# Altium schematic symbol library pporyzala-TI_Lighting.SchLib: 745 symbols (part 48 of 48)
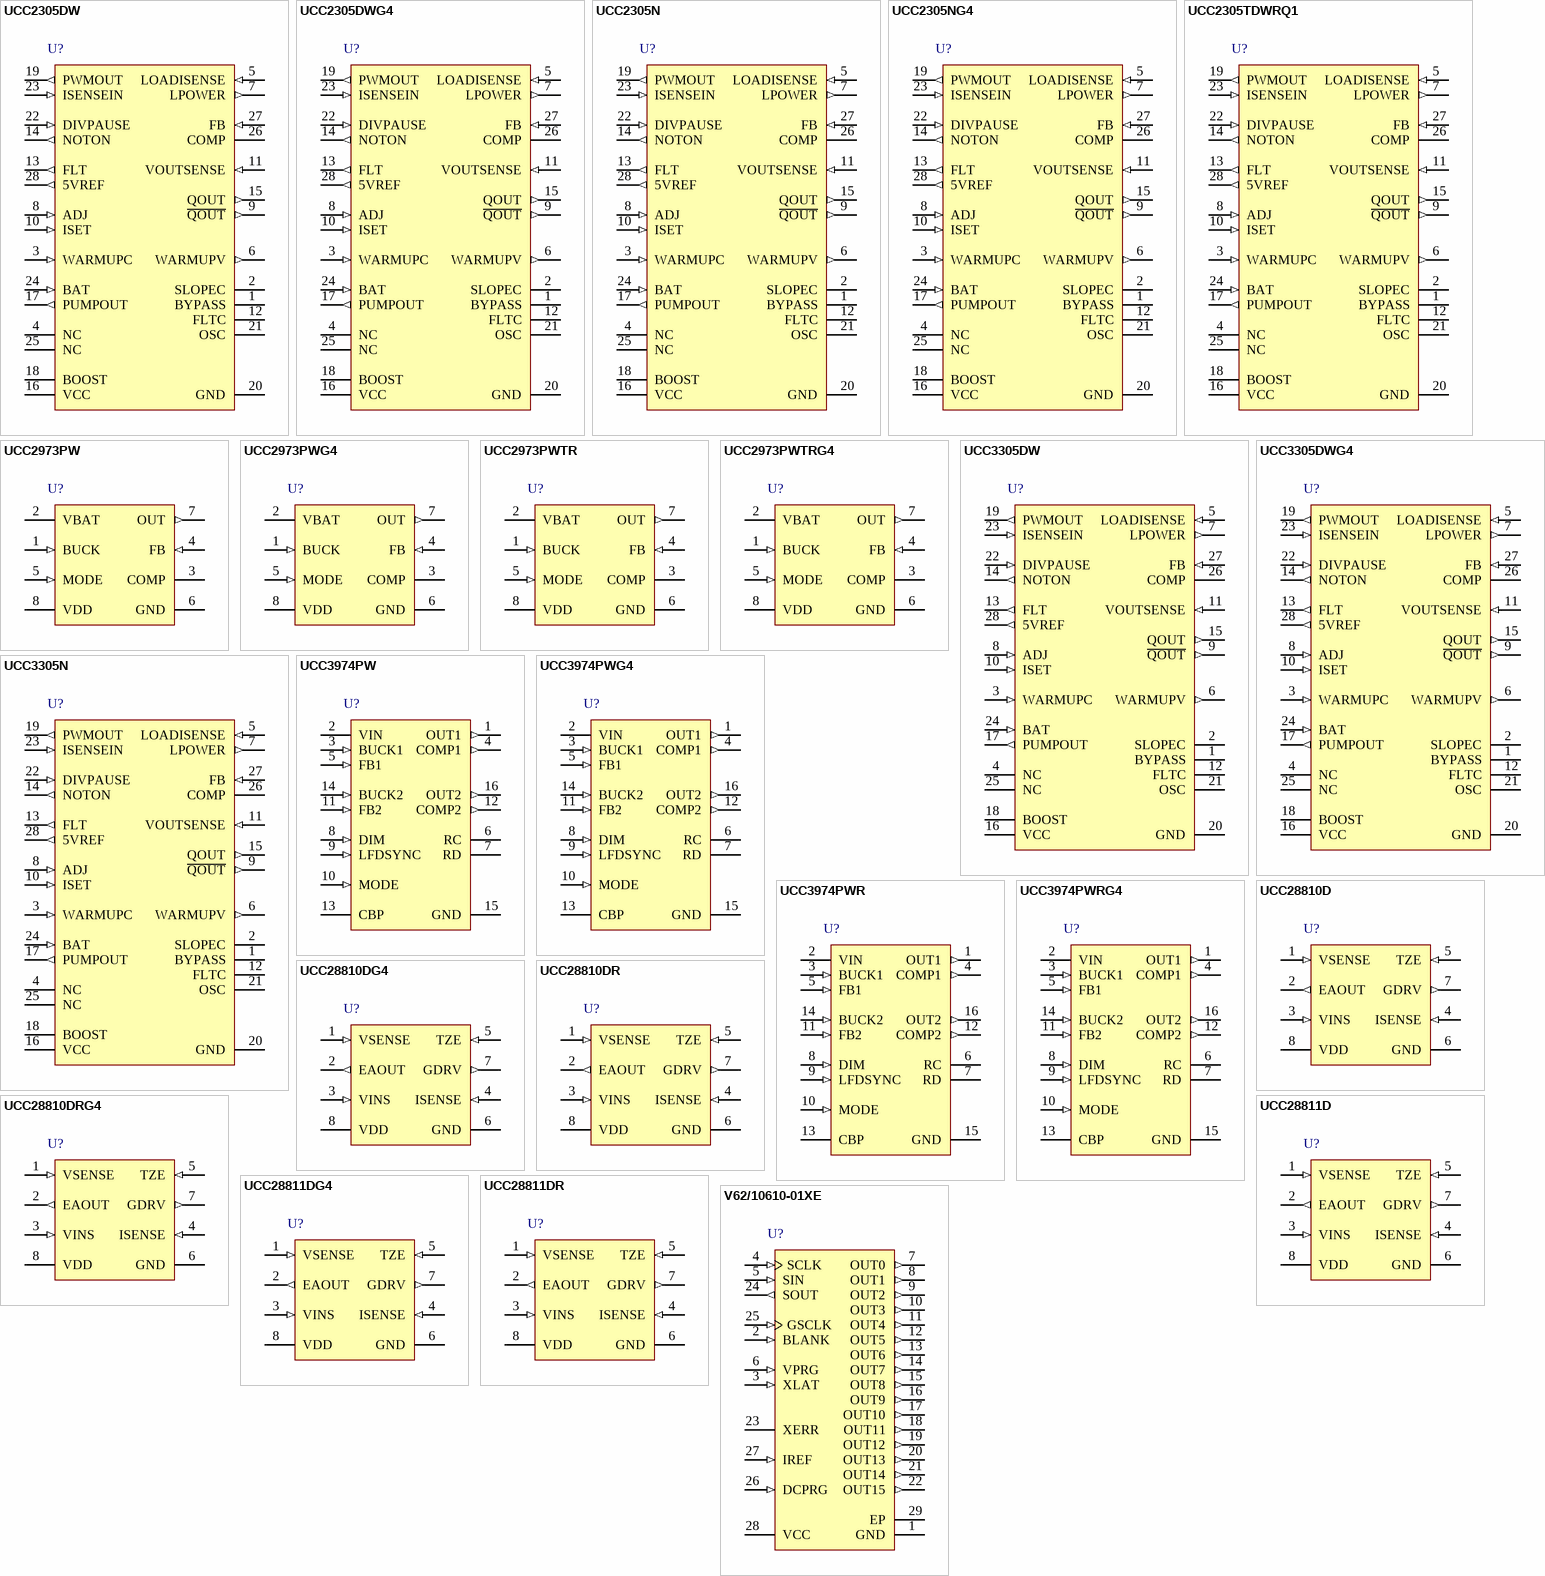
[diagram p78: symbols UCC2305DW to V62/10610-01XE]

## UCC3974PW
designator U?
Dual Cold Cathode Fluorescent Lamp Controller, 4.5 to 25 V, 0 to 70 degC, 16-pin SOP (PW16), Green (RoHS & no Sb/Br); Manufacturer: Texas Instruments; PartNumber: UCC3974PW; Control Topology: Push-Pull; Frequency(Max)(kHz): 220; Open Lamp Detect: TRUE; Rating: Catalog; SubFamily: CCFL Backlight Converter; Vin(Max)(V): 25; Vin(Min)(V): 4.5; DatasheetVersion: SLUS485A; PackageVersion: 4040064-4/G; PackageReference: PW16; PackageDescription: 16-Pin Plastic Small Outline, Body 4.40 x 5.00 mm, Pitch 0.65 mm; Supplier 1: Digi-Key; Supplier Part Number 1: 296-12405-5-ND; Supplier 2: Newark; Supplier Part Number 2: 77C2674; Supplier 3: Mouser; Supplier Part Number 3: 595-UCC3974PW; Eco-Plan: Green (RoHS & no Sb/Br); Mounting Technology: Surface Mount; Code_JEDEC: MO-153; ComponentLink1Description: Manufacturer URL; ComponentLink1URL: http://www.ti.com/; ComponentLink2Description: Datasheet; ComponentLink2URL: http://www.ti.com/general/docs/lit/getliterature.tsp?genericPartNumber=UCC3974&fileType=pdf; ComponentLink3Description: Package Specification; ComponentLink3URL: http://www.ti.com/lit/ml/mpds361/mpds361.pdf
footprint TI-PW16_N (SOP, 16-Leads, Body 5x4.4mm, Pitch 0.65mm, IPC Medium Density)
footprint TI-PW16_L (SOP, 16-Leads, Body 5x4.4mm, Pitch 0.65mm, IPC High Density)
footprint TI-PW16_M (SOP, 16-Leads, Body 5x4.4mm, Pitch 0.65mm, IPC Low Density)
pins: 1 OUT1 (out) "FET drive output for the channel. The pin is driven between GND and internal voltage (typically 12 V).", 2 VIN (power) "Power supply input. 4.5 V to 25 V.", 3 BUCK1 (in) "Voltage sense for the resonant tank", 4 COMP1 (out) "Output of the error amplifiers for the channel.", 5 FB1 (in) "Inverting input of the error amplifier.", 6 RC "Connection for the low-frequency dimming (LFD) charge resistor. The other terminal of the resistor is connected to the LFD capacitor, CLFD.", 7 RD "Connection for low-frequency dimming (LFD) discharge resistor, RD. The other terminal of the resistor is connected to the LFD capacitor, CLFD. LFD frequency us user programmable by varying RC, RD and CFLD.", 8 DIM (in) "Reference signal applied to the LFD PWM that determines the LFD duty cycle.", 9 LFDSYNC (in) "2.5-V logic-compatible pin used to synchronize the LFD oscillator.", 10 MODE (in) "Start-up timing control.", 11 FB2 (in) "Inverting input of the error amplifier.", 12 COMP2 (out) "Output of the error amplifiers for the channel.", 13 CBP (power) "Internally generated low-voltage supply. Bypass to GND with 0.1-μF bypass coordinator.", 14 BUCK2 (in) "Voltage sense for the resonant tank", 15 GND (power) "Power supply return.", 16 OUT2 (out) "FET drive output for the channel. The pin is driven between GND and internal voltage (typically 12 V)."

## UCC3974PWG4
designator U?
Dual Cold Cathode Fluorescent Lamp Controller, 4.5 to 25 V, 0 to 70 degC, 16-pin SOP (PW16), Green (RoHS & no Sb/Br); Manufacturer: Texas Instruments; PartNumber: UCC3974PWG4; Control Topology: Push-Pull; Frequency(Max)(kHz): 220; Open Lamp Detect: TRUE; Rating: Catalog; SubFamily: CCFL Backlight Converter; Vin(Max)(V): 25; Vin(Min)(V): 4.5; DatasheetVersion: SLUS485A; PackageVersion: 4040064-4/G; PackageReference: PW16; PackageDescription: 16-Pin Plastic Small Outline, Body 4.40 x 5.00 mm, Pitch 0.65 mm; Supplier 1: Digi-Key; Supplier Part Number 1: UCC3974PWG4-ND; Supplier 2: Newark; Supplier Part Number 2: 80K3520; Supplier 3: Mouser; Supplier Part Number 3: 595-UCC3974PWG4; Eco-Plan: Green (RoHS & no Sb/Br); Mounting Technology: Surface Mount; Code_JEDEC: MO-153; ComponentLink1Description: Manufacturer URL; ComponentLink1URL: http://www.ti.com/; ComponentLink2Description: Datasheet; ComponentLink2URL: http://www.ti.com/general/docs/lit/getliterature.tsp?genericPartNumber=UCC3974&fileType=pdf; ComponentLink3Description: Package Specification; ComponentLink3URL: http://www.ti.com/lit/ml/mpds361/mpds361.pdf
footprint TI-PW16_N (SOP, 16-Leads, Body 5x4.4mm, Pitch 0.65mm, IPC Medium Density)
footprint TI-PW16_L (SOP, 16-Leads, Body 5x4.4mm, Pitch 0.65mm, IPC High Density)
footprint TI-PW16_M (SOP, 16-Leads, Body 5x4.4mm, Pitch 0.65mm, IPC Low Density)
pins: 1 OUT1 (out) "FET drive output for the channel. The pin is driven between GND and internal voltage (typically 12 V).", 2 VIN (power) "Power supply input. 4.5 V to 25 V.", 3 BUCK1 (in) "Voltage sense for the resonant tank", 4 COMP1 (out) "Output of the error amplifiers for the channel.", 5 FB1 (in) "Inverting input of the error amplifier.", 6 RC "Connection for the low-frequency dimming (LFD) charge resistor. The other terminal of the resistor is connected to the LFD capacitor, CLFD.", 7 RD "Connection for low-frequency dimming (LFD) discharge resistor, RD. The other terminal of the resistor is connected to the LFD capacitor, CLFD. LFD frequency us user programmable by varying RC, RD and CFLD.", 8 DIM (in) "Reference signal applied to the LFD PWM that determines the LFD duty cycle.", 9 LFDSYNC (in) "2.5-V logic-compatible pin used to synchronize the LFD oscillator.", 10 MODE (in) "Start-up timing control.", 11 FB2 (in) "Inverting input of the error amplifier.", 12 COMP2 (out) "Output of the error amplifiers for the channel.", 13 CBP (power) "Internally generated low-voltage supply. Bypass to GND with 0.1-μF bypass coordinator.", 14 BUCK2 (in) "Voltage sense for the resonant tank", 15 GND (power) "Power supply return.", 16 OUT2 (out) "FET drive output for the channel. The pin is driven between GND and internal voltage (typically 12 V)."

## UCC3974PWR
designator U?
Dual Cold Cathode Fluorescent Lamp Controller, 4.5 to 25 V, 0 to 70 degC, 16-pin SOP (PW16), Green (RoHS & no Sb/Br); Manufacturer: Texas Instruments; PartNumber: UCC3974PWR; Control Topology: Push-Pull; Frequency(Max)(kHz): 220; Open Lamp Detect: TRUE; Rating: Catalog; SubFamily: CCFL Backlight Converter; Vin(Max)(V): 25; Vin(Min)(V): 4.5; DatasheetVersion: SLUS485A; PackageVersion: 4040064-4/G; PackageReference: PW16; PackageDescription: 16-Pin Plastic Small Outline, Body 4.40 x 5.00 mm, Pitch 0.65 mm; Supplier 1: Digi-Key; Supplier Part Number 1: UCC3974PWR-ND; Supplier 2: Newark; Supplier Part Number 2: 77C2675; Supplier 3: Mouser; Supplier Part Number 3: 595-UCC3974PWR; Eco-Plan: Green (RoHS & no Sb/Br); Mounting Technology: Surface Mount; Code_JEDEC: MO-153; ComponentLink1Description: Manufacturer URL; ComponentLink1URL: http://www.ti.com/; ComponentLink2Description: Datasheet; ComponentLink2URL: http://www.ti.com/general/docs/lit/getliterature.tsp?genericPartNumber=UCC3974&fileType=pdf; ComponentLink3Description: Package Specification; ComponentLink3URL: http://www.ti.com/lit/ml/mpds361/mpds361.pdf
footprint TI-PW16_N (SOP, 16-Leads, Body 5x4.4mm, Pitch 0.65mm, IPC Medium Density)
footprint TI-PW16_L (SOP, 16-Leads, Body 5x4.4mm, Pitch 0.65mm, IPC High Density)
footprint TI-PW16_M (SOP, 16-Leads, Body 5x4.4mm, Pitch 0.65mm, IPC Low Density)
pins: 1 OUT1 (out) "FET drive output for the channel. The pin is driven between GND and internal voltage (typically 12 V).", 2 VIN (power) "Power supply input. 4.5 V to 25 V.", 3 BUCK1 (in) "Voltage sense for the resonant tank", 4 COMP1 (out) "Output of the error amplifiers for the channel.", 5 FB1 (in) "Inverting input of the error amplifier.", 6 RC "Connection for the low-frequency dimming (LFD) charge resistor. The other terminal of the resistor is connected to the LFD capacitor, CLFD.", 7 RD "Connection for low-frequency dimming (LFD) discharge resistor, RD. The other terminal of the resistor is connected to the LFD capacitor, CLFD. LFD frequency us user programmable by varying RC, RD and CFLD.", 8 DIM (in) "Reference signal applied to the LFD PWM that determines the LFD duty cycle.", 9 LFDSYNC (in) "2.5-V logic-compatible pin used to synchronize the LFD oscillator.", 10 MODE (in) "Start-up timing control.", 11 FB2 (in) "Inverting input of the error amplifier.", 12 COMP2 (out) "Output of the error amplifiers for the channel.", 13 CBP (power) "Internally generated low-voltage supply. Bypass to GND with 0.1-μF bypass coordinator.", 14 BUCK2 (in) "Voltage sense for the resonant tank", 15 GND (power) "Power supply return.", 16 OUT2 (out) "FET drive output for the channel. The pin is driven between GND and internal voltage (typically 12 V)."

## UCC3974PWRG4
designator U?
Dual Cold Cathode Fluorescent Lamp Controller, 4.5 to 25 V, 0 to 70 degC, 16-pin SOP (PW16), Green (RoHS & no Sb/Br); Manufacturer: Texas Instruments; PartNumber: UCC3974PWRG4; Control Topology: Push-Pull; Frequency(Max)(kHz): 220; Open Lamp Detect: TRUE; Rating: Catalog; SubFamily: CCFL Backlight Converter; Vin(Max)(V): 25; Vin(Min)(V): 4.5; DatasheetVersion: SLUS485A; PackageVersion: 4040064-4/G; PackageReference: PW16; PackageDescription: 16-Pin Plastic Small Outline, Body 4.40 x 5.00 mm, Pitch 0.65 mm; Supplier 1: Digi-Key; Supplier Part Number 1: UCC3974PWRG4-ND; Supplier 2: Newark; Supplier Part Number 2: 54K2215; Supplier 3: Mouser; Supplier Part Number 3: 595-UCC3974PWRG4; Eco-Plan: Green (RoHS & no Sb/Br); Mounting Technology: Surface Mount; Code_JEDEC: MO-153; ComponentLink1Description: Manufacturer URL; ComponentLink1URL: http://www.ti.com/; ComponentLink2Description: Datasheet; ComponentLink2URL: http://www.ti.com/general/docs/lit/getliterature.tsp?genericPartNumber=UCC3974&fileType=pdf; ComponentLink3Description: Package Specification; ComponentLink3URL: http://www.ti.com/lit/ml/mpds361/mpds361.pdf
footprint TI-PW16_N (SOP, 16-Leads, Body 5x4.4mm, Pitch 0.65mm, IPC Medium Density)
footprint TI-PW16_L (SOP, 16-Leads, Body 5x4.4mm, Pitch 0.65mm, IPC High Density)
footprint TI-PW16_M (SOP, 16-Leads, Body 5x4.4mm, Pitch 0.65mm, IPC Low Density)
pins: 1 OUT1 (out) "FET drive output for the channel. The pin is driven between GND and internal voltage (typically 12 V).", 2 VIN (power) "Power supply input. 4.5 V to 25 V.", 3 BUCK1 (in) "Voltage sense for the resonant tank", 4 COMP1 (out) "Output of the error amplifiers for the channel.", 5 FB1 (in) "Inverting input of the error amplifier.", 6 RC "Connection for the low-frequency dimming (LFD) charge resistor. The other terminal of the resistor is connected to the LFD capacitor, CLFD.", 7 RD "Connection for low-frequency dimming (LFD) discharge resistor, RD. The other terminal of the resistor is connected to the LFD capacitor, CLFD. LFD frequency us user programmable by varying RC, RD and CFLD.", 8 DIM (in) "Reference signal applied to the LFD PWM that determines the LFD duty cycle.", 9 LFDSYNC (in) "2.5-V logic-compatible pin used to synchronize the LFD oscillator.", 10 MODE (in) "Start-up timing control.", 11 FB2 (in) "Inverting input of the error amplifier.", 12 COMP2 (out) "Output of the error amplifiers for the channel.", 13 CBP (power) "Internally generated low-voltage supply. Bypass to GND with 0.1-μF bypass coordinator.", 14 BUCK2 (in) "Voltage sense for the resonant tank", 15 GND (power) "Power supply return.", 16 OUT2 (out) "FET drive output for the channel. The pin is driven between GND and internal voltage (typically 12 V)."

## UCC28810D
designator U?
LED Lighting Power Controller, -40 to 105 degC, 8-pin SOIC (D8), Green (RoHS & no Sb/Br); Manufacturer: Texas Instruments; PartNumber: UCC28810D; Rating: Catalog; SubFamily: LED Driver, Lighting and Display Solutions, White LED Driver; DatasheetVersion: SLUS865; PackageVersion: 4040047-3/M; PackageReference: D8; PackageDescription: 8-Pin Plastic Small Outline, Body 4.9 x 3.9 mm, Pitch 1.27 mm; Supplier 1: Digi-Key; Supplier Part Number 1: 296-27162-5-ND; Supplier 2: Farnell; Supplier Part Number 2: 1755591; Supplier 3: Newark; Supplier Part Number 3: 34P6595; Supplier 4: Mouser; Supplier Part Number 4: 595-UCC28810D; Eco-Plan: Green (RoHS & no Sb/Br); Mounting Technology: Surface Mount; Code_JEDEC: MS-012; ComponentLink1Description: Manufacturer URL; ComponentLink1URL: http://www.ti.com/; ComponentLink2Description: Datasheet; ComponentLink2URL: http://www.ti.com/general/docs/lit/getliterature.tsp?genericPartNumber=UCC28810&fileType=pdf; ComponentLink3Description: Package Specification; ComponentLink3URL: http://www.ti.com/litv/pdf/msoi002j
footprint TI-D8_N (SOIC, 8-Leads, Body 4.9x3.9mm, Pitch 1.27mm, IPC Medium Density)
footprint TI-D8_L (SOIC, 8-Leads, Body 4.9x3.9mm, Pitch 1.27mm, IPC High Density)
footprint TI-D8_M (SOIC, 8-Leads, Body 4.9x3.9mm, Pitch 1.27mm, IPC Low Density)
pins: 1 VSENSE (in) "This pin is the inverting input to the transconductance amplifier, with a nominal value of 2.5 V, and is also the input to the OVP comparator. Pulling this pin below the ENABLE threshold turns off the output switching, (See Datasheet)", 2 EAOUT (out) "Output of the transconductance error amplifier. The output current capability of this pin is 10 µA under normal conditions, but increases to 1 mA when the voltage on VSENSE rises above 2.5 V. The EAOUT voltage is one of the (See Datasheet)", 3 VINS (in) "This pin senses the instantaneous regulator input voltage through an external voltage divider. The VINS voltage acts as one of the inputs to the current reference generator. The recommended operating range is 0 V to 3.8 V at (See Datasheet)", 4 ISENSE (in) "This pin senses the instantaneous switch current in the external switch and uses this signal as the internal ramp for the current sense comparator. A small internal noise filter is provided. If additional filtering is (See Datasheet)", 5 TZE (in) "This pin is the input for the transformer zero energy detect comparator. A bias winding can be used to sense the transformer zero energy. The transition is detected when the inductor current falls to zero and the TZE input (See Datasheet)", 6 GND (power) "The device reference ground. All bypassing elements are connected to the GND pin with the shortest traces possible.", 7 GDRV (out) "The gate drive output driving the flyback, buck, or boost switch. This output is capable of delivering up to 750-mA peak currents during turn-on and turn-off. An external gate drive resistor may be needed to limit the peak (See Datasheet)", 8 VDD (power) "The supply voltage for the device. This pin must be bypassed with a high-frequency capacitor (not less than 0.1 µF) and tied directly to GND with the shortest traces possible. The UCC28810 has a wide UVLO hysteresis, (See Datasheet)"

## UCC28810DG4
designator U?
LED Lighting Power Controller, -40 to 105 degC, 8-pin SOIC (D8), Green (RoHS & no Sb/Br); Manufacturer: Texas Instruments; PartNumber: UCC28810DG4; Rating: Catalog; SubFamily: LED Driver, Lighting and Display Solutions, White LED Driver; DatasheetVersion: SLUS865; PackageVersion: 4040047-3/M; PackageReference: D8; PackageDescription: 8-Pin Plastic Small Outline, Body 4.9 x 3.9 mm, Pitch 1.27 mm; Supplier 1: Digi-Key; Supplier Part Number 1: UCC28810DG4-ND; Supplier 2: Newark; Supplier Part Number 2: 34P6596; Supplier 3: Mouser; Supplier Part Number 3: 595-UCC28810DG4; Eco-Plan: Green (RoHS & no Sb/Br); Mounting Technology: Surface Mount; Code_JEDEC: MS-012; ComponentLink1Description: Manufacturer URL; ComponentLink1URL: http://www.ti.com/; ComponentLink2Description: Datasheet; ComponentLink2URL: http://www.ti.com/general/docs/lit/getliterature.tsp?genericPartNumber=UCC28810&fileType=pdf; ComponentLink3Description: Package Specification; ComponentLink3URL: http://www.ti.com/litv/pdf/msoi002j
footprint TI-D8_N (SOIC, 8-Leads, Body 4.9x3.9mm, Pitch 1.27mm, IPC Medium Density)
footprint TI-D8_L (SOIC, 8-Leads, Body 4.9x3.9mm, Pitch 1.27mm, IPC High Density)
footprint TI-D8_M (SOIC, 8-Leads, Body 4.9x3.9mm, Pitch 1.27mm, IPC Low Density)
pins: 1 VSENSE (in) "This pin is the inverting input to the transconductance amplifier, with a nominal value of 2.5 V, and is also the input to the OVP comparator. Pulling this pin below the ENABLE threshold turns off the output switching, (See Datasheet)", 2 EAOUT (out) "Output of the transconductance error amplifier. The output current capability of this pin is 10 µA under normal conditions, but increases to 1 mA when the voltage on VSENSE rises above 2.5 V. The EAOUT voltage is one of the (See Datasheet)", 3 VINS (in) "This pin senses the instantaneous regulator input voltage through an external voltage divider. The VINS voltage acts as one of the inputs to the current reference generator. The recommended operating range is 0 V to 3.8 V at (See Datasheet)", 4 ISENSE (in) "This pin senses the instantaneous switch current in the external switch and uses this signal as the internal ramp for the current sense comparator. A small internal noise filter is provided. If additional filtering is (See Datasheet)", 5 TZE (in) "This pin is the input for the transformer zero energy detect comparator. A bias winding can be used to sense the transformer zero energy. The transition is detected when the inductor current falls to zero and the TZE input (See Datasheet)", 6 GND (power) "The device reference ground. All bypassing elements are connected to the GND pin with the shortest traces possible.", 7 GDRV (out) "The gate drive output driving the flyback, buck, or boost switch. This output is capable of delivering up to 750-mA peak currents during turn-on and turn-off. An external gate drive resistor may be needed to limit the peak (See Datasheet)", 8 VDD (power) "The supply voltage for the device. This pin must be bypassed with a high-frequency capacitor (not less than 0.1 µF) and tied directly to GND with the shortest traces possible. The UCC28810 has a wide UVLO hysteresis, (See Datasheet)"

## UCC28810DR
designator U?
LED Lighting Power Controller, -40 to 105 degC, 8-pin SOIC (D8), Green (RoHS & no Sb/Br); Manufacturer: Texas Instruments; PartNumber: UCC28810DR; Rating: Catalog; SubFamily: LED Driver, Lighting and Display Solutions, White LED Driver; DatasheetVersion: SLUS865; PackageVersion: 4040047-3/M; PackageReference: D8; PackageDescription: 8-Pin Plastic Small Outline, Body 4.9 x 3.9 mm, Pitch 1.27 mm; Supplier 1: Digi-Key; Supplier Part Number 1: 296-23905-2-ND; Supplier 2: Digi-Key; Supplier Part Number 2: 296-23905-1-ND; Supplier 3: Digi-Key; Supplier Part Number 3: 296-23905-6-ND; Supplier 4: Newark; Supplier Part Number 4: 34P6597; Supplier 5: Mouser; Supplier Part Number 5: 595-UCC28810DR; Eco-Plan: Green (RoHS & no Sb/Br); Mounting Technology: Surface Mount; Code_JEDEC: MS-012; ComponentLink1Description: Manufacturer URL; ComponentLink1URL: http://www.ti.com/; ComponentLink2Description: Datasheet; ComponentLink2URL: http://www.ti.com/general/docs/lit/getliterature.tsp?genericPartNumber=UCC28810&fileType=pdf; ComponentLink3Description: Package Specification; ComponentLink3URL: http://www.ti.com/litv/pdf/msoi002j
footprint TI-D8_N (SOIC, 8-Leads, Body 4.9x3.9mm, Pitch 1.27mm, IPC Medium Density)
footprint TI-D8_L (SOIC, 8-Leads, Body 4.9x3.9mm, Pitch 1.27mm, IPC High Density)
footprint TI-D8_M (SOIC, 8-Leads, Body 4.9x3.9mm, Pitch 1.27mm, IPC Low Density)
pins: 1 VSENSE (in) "This pin is the inverting input to the transconductance amplifier, with a nominal value of 2.5 V, and is also the input to the OVP comparator. Pulling this pin below the ENABLE threshold turns off the output switching, (See Datasheet)", 2 EAOUT (out) "Output of the transconductance error amplifier. The output current capability of this pin is 10 µA under normal conditions, but increases to 1 mA when the voltage on VSENSE rises above 2.5 V. The EAOUT voltage is one of the (See Datasheet)", 3 VINS (in) "This pin senses the instantaneous regulator input voltage through an external voltage divider. The VINS voltage acts as one of the inputs to the current reference generator. The recommended operating range is 0 V to 3.8 V at (See Datasheet)", 4 ISENSE (in) "This pin senses the instantaneous switch current in the external switch and uses this signal as the internal ramp for the current sense comparator. A small internal noise filter is provided. If additional filtering is (See Datasheet)", 5 TZE (in) "This pin is the input for the transformer zero energy detect comparator. A bias winding can be used to sense the transformer zero energy. The transition is detected when the inductor current falls to zero and the TZE input (See Datasheet)", 6 GND (power) "The device reference ground. All bypassing elements are connected to the GND pin with the shortest traces possible.", 7 GDRV (out) "The gate drive output driving the flyback, buck, or boost switch. This output is capable of delivering up to 750-mA peak currents during turn-on and turn-off. An external gate drive resistor may be needed to limit the peak (See Datasheet)", 8 VDD (power) "The supply voltage for the device. This pin must be bypassed with a high-frequency capacitor (not less than 0.1 µF) and tied directly to GND with the shortest traces possible. The UCC28810 has a wide UVLO hysteresis, (See Datasheet)"

## UCC28810DRG4
designator U?
LED Lighting Power Controller, -40 to 105 degC, 8-pin SOIC (D8), Green (RoHS & no Sb/Br); Manufacturer: Texas Instruments; PartNumber: UCC28810DRG4; Rating: Catalog; SubFamily: LED Driver, Lighting and Display Solutions, White LED Driver; DatasheetVersion: SLUS865; PackageVersion: 4040047-3/M; PackageReference: D8; PackageDescription: 8-Pin Plastic Small Outline, Body 4.9 x 3.9 mm, Pitch 1.27 mm; Supplier 1: Digi-Key; Supplier Part Number 1: UCC28810DRG4-ND; Supplier 2: Newark; Supplier Part Number 2: 34P6598; Supplier 3: Mouser; Supplier Part Number 3: 595-UCC28810DRG4; Eco-Plan: Green (RoHS & no Sb/Br); Mounting Technology: Surface Mount; Code_JEDEC: MS-012; ComponentLink1Description: Manufacturer URL; ComponentLink1URL: http://www.ti.com/; ComponentLink2Description: Datasheet; ComponentLink2URL: http://www.ti.com/general/docs/lit/getliterature.tsp?genericPartNumber=UCC28810&fileType=pdf; ComponentLink3Description: Package Specification; ComponentLink3URL: http://www.ti.com/litv/pdf/msoi002j
footprint TI-D8_N (SOIC, 8-Leads, Body 4.9x3.9mm, Pitch 1.27mm, IPC Medium Density)
footprint TI-D8_L (SOIC, 8-Leads, Body 4.9x3.9mm, Pitch 1.27mm, IPC High Density)
footprint TI-D8_M (SOIC, 8-Leads, Body 4.9x3.9mm, Pitch 1.27mm, IPC Low Density)
pins: 1 VSENSE (in) "This pin is the inverting input to the transconductance amplifier, with a nominal value of 2.5 V, and is also the input to the OVP comparator. Pulling this pin below the ENABLE threshold turns off the output switching, (See Datasheet)", 2 EAOUT (out) "Output of the transconductance error amplifier. The output current capability of this pin is 10 µA under normal conditions, but increases to 1 mA when the voltage on VSENSE rises above 2.5 V. The EAOUT voltage is one of the (See Datasheet)", 3 VINS (in) "This pin senses the instantaneous regulator input voltage through an external voltage divider. The VINS voltage acts as one of the inputs to the current reference generator. The recommended operating range is 0 V to 3.8 V at (See Datasheet)", 4 ISENSE (in) "This pin senses the instantaneous switch current in the external switch and uses this signal as the internal ramp for the current sense comparator. A small internal noise filter is provided. If additional filtering is (See Datasheet)", 5 TZE (in) "This pin is the input for the transformer zero energy detect comparator. A bias winding can be used to sense the transformer zero energy. The transition is detected when the inductor current falls to zero and the TZE input (See Datasheet)", 6 GND (power) "The device reference ground. All bypassing elements are connected to the GND pin with the shortest traces possible.", 7 GDRV (out) "The gate drive output driving the flyback, buck, or boost switch. This output is capable of delivering up to 750-mA peak currents during turn-on and turn-off. An external gate drive resistor may be needed to limit the peak (See Datasheet)", 8 VDD (power) "The supply voltage for the device. This pin must be bypassed with a high-frequency capacitor (not less than 0.1 µF) and tied directly to GND with the shortest traces possible. The UCC28810 has a wide UVLO hysteresis, (See Datasheet)"

## UCC28811D
designator U?
LED Lighting Power Controller, -40 to 105 degC, 8-pin SOIC (D8), Green (RoHS & no Sb/Br); Manufacturer: Texas Instruments; PartNumber: UCC28811D; SubFamily: LED Driver, Lighting and Display Solutions, White LED Driver; DatasheetVersion: SLUS865; PackageVersion: 4040047-3/M; PackageReference: D8; PackageDescription: 8-Pin Plastic Small Outline, Body 4.9 x 3.9 mm, Pitch 1.27 mm; Supplier 1: Digi-Key; Supplier Part Number 1: 296-34757-5-ND; Supplier 2: Farnell; Supplier Part Number 2: 1686305; Supplier 3: Newark; Supplier Part Number 3: 19P7480; Supplier 4: Mouser; Supplier Part Number 4: 595-UCC28811D; Eco-Plan: Green (RoHS & no Sb/Br); Mounting Technology: Surface Mount; Code_JEDEC: MS-012; ComponentLink1Description: Manufacturer URL; ComponentLink1URL: http://www.ti.com/; ComponentLink2Description: Datasheet; ComponentLink2URL: http://www.ti.com/general/docs/lit/getliterature.tsp?genericPartNumber=UCC28811&fileType=pdf; ComponentLink3Description: Package Specification; ComponentLink3URL: http://www.ti.com/litv/pdf/msoi002j
footprint TI-D8_N (SOIC, 8-Leads, Body 4.9x3.9mm, Pitch 1.27mm, IPC Medium Density)
footprint TI-D8_L (SOIC, 8-Leads, Body 4.9x3.9mm, Pitch 1.27mm, IPC High Density)
footprint TI-D8_M (SOIC, 8-Leads, Body 4.9x3.9mm, Pitch 1.27mm, IPC Low Density)
pins: 1 VSENSE (in) "This pin is the inverting input to the transconductance amplifier, with a nominal value of 2.5 V, and is also the input to the OVP comparator. Pulling this pin below the ENABLE threshold turns off the output switching, (See Datasheet)", 2 EAOUT (out) "Output of the transconductance error amplifier. The output current capability of this pin is 10 u A under normal conditions, but increases to 1 mA when the voltage on VSENSE rises above 2.5 V. The EAOUT voltage is one of the (See Datasheet)", 3 VINS (in) "This pin senses the instantaneous regulator input voltage through an external voltage divider. The VINS voltage acts as one of the inputs to the current reference generator. The recommended operating range is 0 V to 3.8 V at (See Datasheet)", 4 ISENSE (in) "This pin senses the instantaneous switch current in the external switch and uses this signal as the internal ramp for the current sense comparator. A small internal noise filter is provided. If additional filtering is (See Datasheet)", 5 TZE (in) "This pin is the input for the transformer zero energy detect comparator. A bias winding can be used to sense the transformer zero energy. The transition is detected when the inductor current falls to zero and the TZE input (See Datasheet)", 6 GND (power) "The device reference ground. All bypassing elements are connected to the GND pin with the shortest traces possible.", 7 GDRV (out) "The gate drive output driving the flyback, buck, or boost switch. This output is capable of delivering up to 750-mA peak currents during turn-on and turn-off. An external gate drive resistor may be needed to limit the peak (See Datasheet)", 8 VDD (power) "The supply voltage for the device. This pin must be bypassed with a high-frequency capacitor (not less than 0.1 uF) and tied directly to GND with the shortest traces possible. The UCC28810 has a wide UVLO hysteresis, (See Datasheet)"

## UCC28811DG4
designator U?
LED Lighting Power Controller, -40 to 105 degC, 8-pin SOIC (D8), Green (RoHS & no Sb/Br); Manufacturer: Texas Instruments; PartNumber: UCC28811DG4; SubFamily: LED Driver, Lighting and Display Solutions, White LED Driver; DatasheetVersion: SLUS865; PackageVersion: 4040047-3/M; PackageReference: D8; PackageDescription: 8-Pin Plastic Small Outline, Body 4.9 x 3.9 mm, Pitch 1.27 mm; Supplier 1: Digi-Key; Supplier Part Number 1: UCC28811DG4-ND; Supplier 2: Mouser; Supplier Part Number 2: 595-UCC28811DG4; Eco-Plan: Green (RoHS & no Sb/Br); Mounting Technology: Surface Mount; Code_JEDEC: MS-012; ComponentLink1Description: Manufacturer URL; ComponentLink1URL: http://www.ti.com/; ComponentLink2Description: Datasheet; ComponentLink2URL: http://www.ti.com/general/docs/lit/getliterature.tsp?genericPartNumber=UCC28811&fileType=pdf; ComponentLink3Description: Package Specification; ComponentLink3URL: http://www.ti.com/litv/pdf/msoi002j
footprint TI-D8_N (SOIC, 8-Leads, Body 4.9x3.9mm, Pitch 1.27mm, IPC Medium Density)
footprint TI-D8_L (SOIC, 8-Leads, Body 4.9x3.9mm, Pitch 1.27mm, IPC High Density)
footprint TI-D8_M (SOIC, 8-Leads, Body 4.9x3.9mm, Pitch 1.27mm, IPC Low Density)
pins: 1 VSENSE (in) "This pin is the inverting input to the transconductance amplifier, with a nominal value of 2.5 V, and is also the input to the OVP comparator. Pulling this pin below the ENABLE threshold turns off the output switching, (See Datasheet)", 2 EAOUT (out) "Output of the transconductance error amplifier. The output current capability of this pin is 10 u A under normal conditions, but increases to 1 mA when the voltage on VSENSE rises above 2.5 V. The EAOUT voltage is one of the (See Datasheet)", 3 VINS (in) "This pin senses the instantaneous regulator input voltage through an external voltage divider. The VINS voltage acts as one of the inputs to the current reference generator. The recommended operating range is 0 V to 3.8 V at (See Datasheet)", 4 ISENSE (in) "This pin senses the instantaneous switch current in the external switch and uses this signal as the internal ramp for the current sense comparator. A small internal noise filter is provided. If additional filtering is (See Datasheet)", 5 TZE (in) "This pin is the input for the transformer zero energy detect comparator. A bias winding can be used to sense the transformer zero energy. The transition is detected when the inductor current falls to zero and the TZE input (See Datasheet)", 6 GND (power) "The device reference ground. All bypassing elements are connected to the GND pin with the shortest traces possible.", 7 GDRV (out) "The gate drive output driving the flyback, buck, or boost switch. This output is capable of delivering up to 750-mA peak currents during turn-on and turn-off. An external gate drive resistor may be needed to limit the peak (See Datasheet)", 8 VDD (power) "The supply voltage for the device. This pin must be bypassed with a high-frequency capacitor (not less than 0.1 uF) and tied directly to GND with the shortest traces possible. The UCC28810 has a wide UVLO hysteresis, (See Datasheet)"

## UCC28811DR
designator U?
LED Lighting Power Controller, -40 to 105 degC, 8-pin SOIC (D8), Green (RoHS & no Sb/Br); Manufacturer: Texas Instruments; PartNumber: UCC28811DR; SubFamily: LED Driver, Lighting and Display Solutions, White LED Driver; DatasheetVersion: SLUS865; PackageVersion: 4040047-3/M; PackageReference: D8; PackageDescription: 8-Pin Plastic Small Outline, Body 4.9 x 3.9 mm, Pitch 1.27 mm; Supplier 1: Digi-Key; Supplier Part Number 1: 296-23906-2-ND; Supplier 2: Digi-Key; Supplier Part Number 2: 296-23906-1-ND; Supplier 3: Digi-Key; Supplier Part Number 3: 296-23906-6-ND; Supplier 4: Mouser; Supplier Part Number 4: 595-UCC28811DR; Eco-Plan: Green (RoHS & no Sb/Br); Mounting Technology: Surface Mount; Code_JEDEC: MS-012; ComponentLink1Description: Manufacturer URL; ComponentLink1URL: http://www.ti.com/; ComponentLink2Description: Datasheet; ComponentLink2URL: http://www.ti.com/general/docs/lit/getliterature.tsp?genericPartNumber=UCC28811&fileType=pdf; ComponentLink3Description: Package Specification; ComponentLink3URL: http://www.ti.com/litv/pdf/msoi002j
footprint TI-D8_N (SOIC, 8-Leads, Body 4.9x3.9mm, Pitch 1.27mm, IPC Medium Density)
footprint TI-D8_L (SOIC, 8-Leads, Body 4.9x3.9mm, Pitch 1.27mm, IPC High Density)
footprint TI-D8_M (SOIC, 8-Leads, Body 4.9x3.9mm, Pitch 1.27mm, IPC Low Density)
pins: 1 VSENSE (in) "This pin is the inverting input to the transconductance amplifier, with a nominal value of 2.5 V, and is also the input to the OVP comparator. Pulling this pin below the ENABLE threshold turns off the output switching, (See Datasheet)", 2 EAOUT (out) "Output of the transconductance error amplifier. The output current capability of this pin is 10 u A under normal conditions, but increases to 1 mA when the voltage on VSENSE rises above 2.5 V. The EAOUT voltage is one of the (See Datasheet)", 3 VINS (in) "This pin senses the instantaneous regulator input voltage through an external voltage divider. The VINS voltage acts as one of the inputs to the current reference generator. The recommended operating range is 0 V to 3.8 V at (See Datasheet)", 4 ISENSE (in) "This pin senses the instantaneous switch current in the external switch and uses this signal as the internal ramp for the current sense comparator. A small internal noise filter is provided. If additional filtering is (See Datasheet)", 5 TZE (in) "This pin is the input for the transformer zero energy detect comparator. A bias winding can be used to sense the transformer zero energy. The transition is detected when the inductor current falls to zero and the TZE input (See Datasheet)", 6 GND (power) "The device reference ground. All bypassing elements are connected to the GND pin with the shortest traces possible.", 7 GDRV (out) "The gate drive output driving the flyback, buck, or boost switch. This output is capable of delivering up to 750-mA peak currents during turn-on and turn-off. An external gate drive resistor may be needed to limit the peak (See Datasheet)", 8 VDD (power) "The supply voltage for the device. This pin must be bypassed with a high-frequency capacitor (not less than 0.1 uF) and tied directly to GND with the shortest traces possible. The UCC28810 has a wide UVLO hysteresis, (See Datasheet)"

## V62/10610-01XE
designator U?
Enhanced Product 16-Channel LED Driver With DOT Correction and Grayscale PWM Control, 3 to 5.5 V, -40 to 125 degC, 28-pin SOP (PWP28), Green (RoHS & no Sb/Br); Manufacturer: Texas Instruments; PartNumber: V62/10610-01XE; Rating: HiRel Enhanced Product; Vin(Max)(V): 5.5; Vin(Min)(V): 3; DatasheetVersion: SLVSA51D; PackageVersion: 4073225-6/I; PackageReference: PWP28-5720X1950TP; PackageDescription: 28-Pin Plastic Small Outline, Body 4.4 x 9.7 mm, Pitch 0.65 mm; Supplier 1: Mouser; Supplier Part Number 1: 595-V62/10610-01XE; Eco-Plan: Green (RoHS & no Sb/Br); SubFamily: LED Driver; Mounting Technology: Surface Mount; Code_JEDEC: MO-153; ComponentLink1Description: Manufacturer URL; ComponentLink1URL: http://www.ti.com/; ComponentLink2Description: Datasheet; ComponentLink2URL: http://www.ti.com/general/docs/lit/getliterature.tsp?genericPartNumber=TLC5940-EP&fileType=pdf; ComponentLink3Description: Package Specification; ComponentLink3URL: http://www.ti.com/litv/pdf/mpds373
footprint TI-PWP28-5720X1950TP_N (SOP, 28-Leads, Body 9.7x4.4mm, Pitch 0.65mm, Thermal Pad 5.72 x 1.95mm, IPC Medium Density)
footprint TI-PWP28-5720X1950TP_L (SOP, 28-Leads, Body 9.7x4.4mm, Pitch 0.65mm, Thermal Pad 5.72 x 1.95mm, IPC High Density)
footprint TI-PWP28-5720X1950TP_M (SOP, 28-Leads, Body 9.7x4.4mm, Pitch 0.65mm, Thermal Pad 5.72 x 1.95mm, IPC Low Density)
pins: 1 GND (power) "Ground", 2 BLANK (in) "Blank all outputs. When BLANK = H, all OUTn outputs are forced OFF. GS counter is also reset. When BLANK = L, OUTn are controlled by grayscale PWM control.", 3 XLAT (in) "Level triggered latch signal. When XLAT = high, the TLC5940 writes data from the input shift register to either GS register (VPRG = low) or DC register (VPRG = high). When XLAT = low, the data in GS or DC register is held (See Datasheet)", 4 SCLK (in) "Serial data shift clock", 5 SIN (in) "Serial data input", 6 VPRG (in) "Multifunction input pin. When VPRG = GND, the device is in GS mode. When VPRG = VCC, the device is in DC mode. When VPRG = V(VPRG), DC register data can programmed into DC EEPROM with DCPRG=HIGH. EEPROM data = 3Fh (default)", 7 OUT0 (out) "Constant current output", 8 OUT1 (out) "Constant current output", 9 OUT2 (out) "Constant current output", 10 OUT3 (out) "Constant current output", 11 OUT4 (out) "Constant current output", 12 OUT5 (out) "Constant current output", 13 OUT6 (out) "Constant current output", 14 OUT7 (out) "Constant current output", 15 OUT8 (out) "Constant current output", 16 OUT9 (out) "Constant current output", 17 OUT10 (out) "Constant current output", 18 OUT11 (out) "Constant current output", 19 OUT12 (out) "Constant current output", 20 OUT13 (out) "Constant current output", 21 OUT14 (out) "Constant current output", 22 OUT15 (out) "Constant current output", 23 XERR (hiz) "Error output. Open-drain output. XERR goes low when LOD or TEF is detected.", 24 SOUT (out) "Serial data output", 25 GSCLK (in) "Reference clock for Grayscale PWM control.", 26 DCPRG (in) "Switch DC data input. When DCPRG = L, DC is connected to EEPROM. When DCPRG = H, DC is connected to the DC register. DCPRG also controls EEPROM writing, when VPRG = V(PRG). EEPROM data = 3Fh (default)", 27 IREF (in) "Reference current terminal", 28 VCC (power) "Power-supply voltage", 29 EP

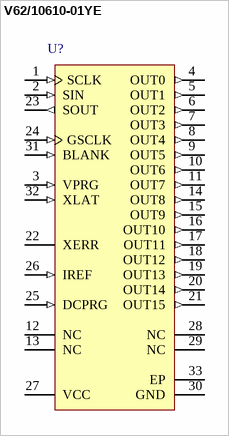
[diagram p31: symbol V62/10610-01YE]

## V62/10610-01YE
designator U?
Enhanced Product 16-Channel LED Driver with DOT Correction and Grayscale PWM Control, 3 to 5.5 V, -40 to 125 degC, 32-pin QFN (RHB32), Green (RoHS & no Sb/Br); Manufacturer: Texas Instruments; PartNumber: V62/10610-01YE; Rating: HiRel Enhanced Product; Vin(Max)(V): 5.5; Vin(Min)(V): 3; DatasheetVersion: SLVSA51D; PackageVersion: 4204326/D; PackageReference: RHB32-3150X3150TP; PackageDescription: 32-Pin Plastic Flat Pack, Body 5 x 5 mm, Pitch 0.5 mm; Supplier 1: Mouser; Supplier Part Number 1: 595-V62/10610-01YE; Eco-Plan: Green (RoHS & no Sb/Br); SubFamily: LED Driver; Mounting Technology: Surface Mount; Code_JEDEC: MO-220; ComponentLink1Description: Manufacturer URL; ComponentLink1URL: http://www.ti.com/; ComponentLink2Description: Datasheet; ComponentLink2URL: http://www.ti.com/general/docs/lit/getliterature.tsp?genericPartNumber=TLC5940-EP&fileType=pdf; ComponentLink3Description: Package Specification; ComponentLink3URL: http://www.ti.com/lit/ml/mpqf130c/mpqf130c.pdf
footprint TI-RHB32-3150X3150TP_V (QFN, 32-Leads, Body 5x5mm, Pitch 0.5mm, Thermal Pad 3.15x3.15mm)
pins: 1 SCLK (in) "Serial data shift clock", 2 SIN (in) "Serial data input", 3 VPRG (in) "Multifunction input pin. When VPRG = GND, the device is in GS mode. When VPRG = VCC, the device is in DC mode. When VPRG = V(VPRG), DC register data can programmed into DC EEPROM with DCPRG=HIGH. EEPROM data = 3Fh (default)", 4 OUT0 (out) "Constant current output", 5 OUT1 (out) "Constant current output", 6 OUT2 (out) "Constant current output", 7 OUT3 (out) "Constant current output", 8 OUT4 (out) "Constant current output", 9 OUT5 (out) "Constant current output", 10 OUT6 (out) "Constant current output", 11 OUT7 (out) "Constant current output", 12 NC "No connection", 13 NC "No connection", 14 OUT8 (out) "Constant current output", 15 OUT9 (out) "Constant current output", 16 OUT10 (out) "Constant current output", 17 OUT11 (out) "Constant current output", 18 OUT12 (out) "Constant current output", 19 OUT13 (out) "Constant current output", 20 OUT14 (out) "Constant current output", 21 OUT15 (out) "Constant current output", 22 XERR (hiz) "Error output. Open-drain output. XERR goes low when LOD or TEF is detected.", 23 SOUT (out) "Serial data output", 24 GSCLK (in) "Reference clock for Grayscale PWM control.", 25 DCPRG (in) "Switch DC data input. When DCPRG = L, DC is connected to EEPROM. When DCPRG = H, DC is connected to the DC register. DCPRG also controls EEPROM writing, when VPRG = V(PRG). EEPROM data = 3Fh (default)", 26 IREF (in) "This pin sets the constant current value. OUT0 through OUT15 sink constant current is set to desired value by connecting an external resistor between IREF and GND.", 27 VCC (power) "Power-supply voltage", 28 NC "No connection", 29 NC "No connection", 30 GND (power) "Ground", 31 BLANK (in) "Blank all outputs. When BLANK = H, all OUTn outputs are forced OFF. GS counter is also reset. When BLANK = L, OUTn are controlled by grayscale PWM control.", 32 XLAT (in) "Level triggered latch signal. When XLAT = high, the TLC5940 writes data from the input shift register to either GS register (VPRG = low) or DC register (VPRG = high). When XLAT = low, the data in GS or DC register is held (See Datasheet)", 33 EP